# Altium schematic symbol library S2KDFQ-13.SchLib: 1 symbol
Pins are listed as number, name and electrical type; pins without a type are passive.

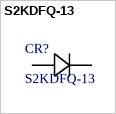
[diagram p0: symbol S2KDFQ-13]

## S2KDFQ-13
designator CR?
No Description Available; Manufacturer_Part_Number: S5MC-13-F; Vendor: Diodes Inc; Built_By: EMA_UL_Team; Type: DEV; Copyright: Copyright (C) 2018 Accelerated Designs. All rights reserved; RefDes: RefDes; Value: Value
footprint SMC-M
pins: 1, 2